# Altium footprint library prop_2009.PcbLib: 22 footprints (part 1 of 2)
Each footprint in its own frame and in the unit in brackets; x right, y up, seen from the top. Pads: shape width x height; smd on the part's side, far side on the other; paste and mask are expansions set on the pad; w line width, h text height; cw(c..) or ccw(c..) is an arc to the next point about the centre after c.
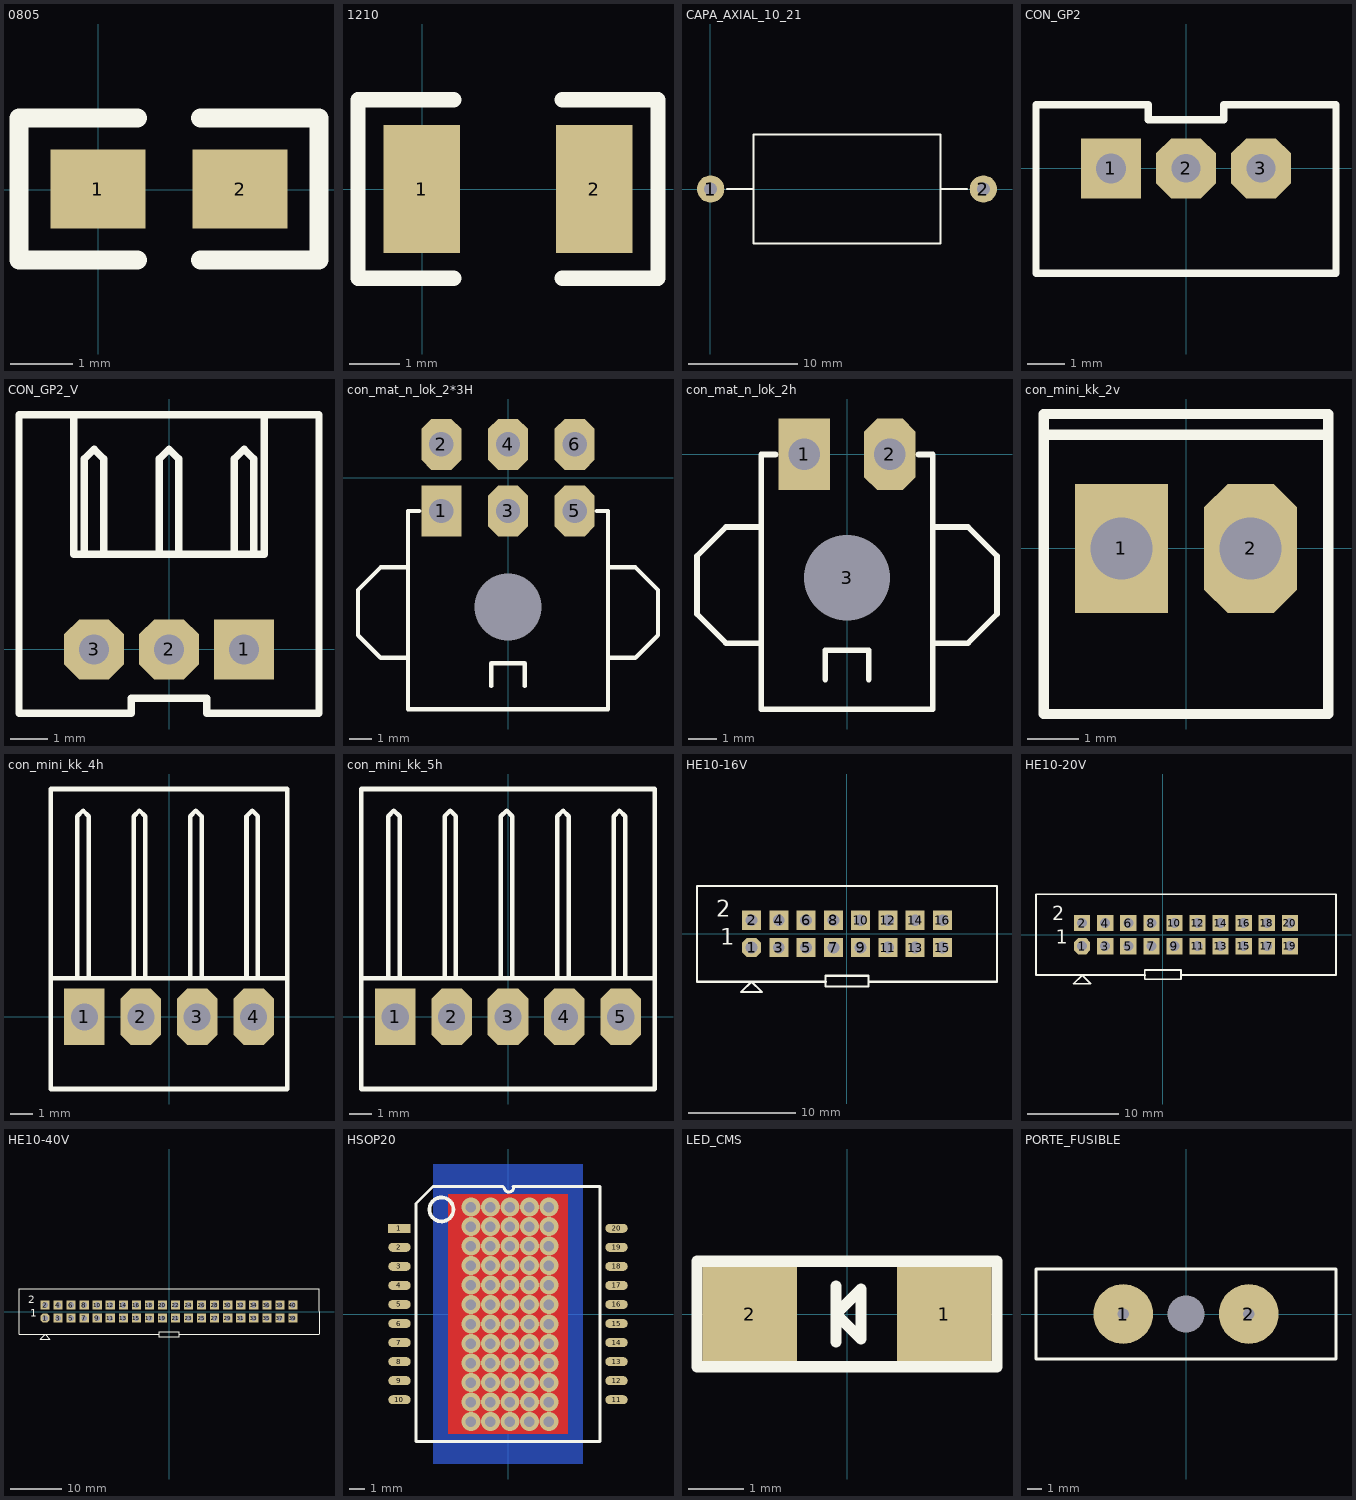
[diagram p0: the footprints below, top view; thin cyan lines are the x and y axes]

## 0805 [mil]
pads (2):
  rect 60x50 smd: 1(-0.32,0.36) 2(89.68,0.36)
Top Overlay:
  lines w12: 24.68,-44.64 -50.32,-44.64 -50.32,45.36 24.68,45.36 ; 64.68,-44.64 139.68,-44.64 139.68,45.36 64.68,45.36

## 1210 [mil]
pads (2):
  rect 60x100 smd: 1(-0.2,0.1) 2(134.8,0.1)
Top Overlay:
  lines w12: 24.8,-69.9 -50.2,-69.9 -50.2,70.1 24.8,70.1 ; 109.8,-69.9 184.8,-69.9 184.8,70.1 109.8,70.1

## CAPA_AXIAL_10_21 [mm]
pads (2):
  round 2.5 hole 1.2: 1(0.015,0.012) 2(25.015,0.012)
Top Overlay:
  lines w0.2: 1.515,0.012 3.94,0.012 ; 21.09,0.012 23.515,0.012 ; 3.94,0.012 3.94,5.012 21.09,5.012 21.09,-4.988 3.94,-4.988 3.94,0.012

## CON_GP2 [mm]
pads (3):
  rect 1.6x1.6 hole 0.8: 1(-2,0)
  oct 1.6x1.6 hole 0.762: 2(0,0) 3(2,0)
Top Overlay:
  lines w0.2: -4,-2.8 -4,1.7 -1,1.7 -1,1.3 1,1.3 1,1.7 4,1.7 4,-2.8 -4,-2.8

## CON_GP2_V [mm]
pads (3):
  rect 1.6x1.6 hole 0.8: 1(2,0)
  oct 1.6x1.6 hole 0.8: 2(0,0) 3(-2,0)
Top Overlay:
  lines w0.2: -2.54,6.25 -2.54,2.54 2.54,2.54 2.54,6.25 ; -2.254,2.54 -2.254,5.08 -2,5.334 -1.746,5.08 -1.746,2.54 ; -0.254,2.54 -0.254,5.08 0,5.334 0.254,5.08 0.254,2.54 ; 1.746,2.54 1.746,5.08 2,5.334 2.254,5.08 2.254,2.54 ; -4,-1.7 -1,-1.7 -1,-1.3 1,-1.3 1,-1.7 4,-1.7 4,6.25 -4,6.25 -4,-1.7

## con_mat_n_lok_2*3H [mm]
pads (7):
  rect 1.8x2.3 hole 1.1: 1(-3,-1.5)
  oct 1.8x2.3 hole 1.1: 2(-3,1.5) 3(0,-1.5) 4(0,1.5) 5(3,-1.5) 6(3,1.5)
  round 1.524 hole 3: ""(0,-5.82)
Top Overlay:
  lines w0.2: -4.5,-8.104 -5.734,-8.104 -6.75,-7.088 -6.75,-5.056 -5.734,-4.04 -4.5,-4.04 ; -4,-1.5 -4.5,-1.5 -4.5,-10.42 4.5,-10.42 4.5,-1.5 4,-1.5 ; -0.762,-9.374 -0.762,-8.358 0.762,-8.358 0.762,-9.374 ; 4.5,-8.104 5.734,-8.104 6.75,-7.088 6.75,-5.056 5.734,-4.04 4.5,-4.04

## con_mat_n_lok_2h [mm]
pads (3):
  rect 1.8x2.5 hole 1.1: 1(-1.5,0)
  oct 1.8x2.5 hole 1.1: 2(1.5,0)
  round 1.524 hole 3: 3(0,-4.32)
Top Overlay:
  lines w0.2: -3,-6.604 -4.234,-6.604 -5.25,-5.588 -5.25,-3.556 -4.234,-2.54 -3,-2.54 ; -2.5,0 -3,0 -3,-8.92 3,-8.92 3,0 2.5,0 ; -0.762,-7.874 -0.762,-6.858 0.762,-6.858 0.762,-7.874 ; 3,-6.604 4.234,-6.604 5.25,-5.588 5.25,-3.556 4.234,-2.54 3,-2.54

## con_mini_kk_2v [mm]
pads (2):
  rect 1.8x2.5 hole 1.2: 1(-1.25,0)
  oct 1.8x2.5 hole 1.2: 2(1.25,0)
Top Overlay:
  lines w0.2: -2.75,2.2 2.75,2.2 ; -2.75,-3.2 2.75,-3.2 2.75,2.6 -2.75,2.6 -2.75,-3.2

## con_mini_kk_4h [mm]
pads (4):
  rect 1.8x2.5 hole 1.2: 1(-3.75,0)
  oct 1.8x2.5 hole 1.2: 2(-1.25,0) 3(1.25,0) 4(3.75,0)
Top Overlay:
  lines w0.2: -5.25,1.7 5.25,1.7 ; -4.064,1.7 -4.064,8.89 -3.81,9.144 -3.556,8.89 -3.556,1.7 ; -1.564,1.7 -1.564,8.89 -1.31,9.144 -1.056,8.89 -1.056,1.7 ; 0.936,1.7 0.936,8.89 1.19,9.144 1.444,8.89 1.444,1.7 ; 3.436,1.7 3.436,8.89 3.69,9.144 3.944,8.89 3.944,1.7 ; -5.25,-3.2 -5.25,10.1 5.25,10.1 5.25,-3.2 -5.25,-3.2

## con_mini_kk_5h [mm]
pads (5):
  rect 1.8x2.5 hole 1.2: 1(-5,0)
  oct 1.8x2.5 hole 1.2: 2(-2.5,0) 3(0,0) 4(2.5,0) 5(5,0)
Top Overlay:
  lines w0.2: -6.5,1.7 6.5,1.7 ; -5.314,1.7 -5.314,8.89 -5.06,9.144 -4.806,8.89 -4.806,1.7 ; -2.814,1.7 -2.814,8.89 -2.56,9.144 -2.306,8.89 -2.306,1.7 ; -0.314,1.7 -0.314,8.89 -0.06,9.144 0.194,8.89 0.194,1.7 ; 2.186,1.7 2.186,8.89 2.44,9.144 2.694,8.89 2.694,1.7 ; 4.686,1.7 4.686,8.89 4.94,9.144 5.194,8.89 5.194,1.7 ; -6.5,-3.2 -6.5,10.1 6.5,10.1 6.5,-3.2 -6.5,-3.2

## HE10-16V [mil]
pads (16):
  oct 70x70 hole 43.31: 1(-350,-50)
  rect 70x70 hole 43.31: 2(-350,50) 3(-250,-50) 4(-250,50) 5(-150,-50) 6(-150,50) 7(-50,-50) 8(-50,50) 9(50,-50) 10(50,50) 11(150,-50) 12(150,50) 13(250,-50) 14(250,50) 15(350,-50) 16(350,50)
Top Overlay:
  lines w8: -312.55,-212.64 -350,-175.2 -387.44,-212.64 -312.44,-212.64 ; -78.94,-175.2 -550,-175.2 -550,175.2 550,175.2 550,-175.2 83.54,-175.2 ; -78.74,-192.91 -78.74,-153.54 78.74,-153.54 78.74,-192.91 -78.74,-192.91
  lines w10: -78.94,-175.2 -78.74,-175.39
  text "1" at -464,-40 h60
  text "2" at -480,63 h60

## HE10-20V [mil]
pads (20):
  oct 70x70 hole 43.31: 1(-350,-50)
  rect 70x70 hole 43.31: 2(-350,50) 3(-250,-50) 4(-250,50) 5(-150,-50) 6(-150,50) 7(-50,-50) 8(-50,50) 9(50,-50) 10(50,50) 11(150,-50) 12(150,50) 13(250,-50) 14(250,50) 15(350,-50) 16(350,50) 17(450,-50) 18(450,50) 19(550,-50) 20(550,50)
Top Overlay:
  lines w8: -312.55,-212.64 -350,-175.2 -387.44,-212.64 -312.44,-212.64 ; -78.94,-175.2 -550,-175.2 -550,175.2 750,175.2 750,-175.2 83.54,-175.2 ; -78.74,-192.91 78.74,-192.91 78.74,-153.54 -78.74,-153.54 -78.74,-192.91
  lines w10: -78.94,-175.2 -78.74,-175.39
  text "2" at -480,63 h60
  text "1" at -464,-40 h60

## HE10-40V [mil]
pads (40):
  oct 70x70 hole 43.31: 1(-950,-50)
  rect 70x70 hole 43.31: 2(-950,50) 3(-850,-50) 4(-850,50) 5(-750,-50) 6(-750,50) 7(-650,-50) 8(-650,50) 9(-550,-50) 10(-550,50) 11(-450,-50) 12(-450,50) 13(-350,-50) 14(-350,50) 15(-250,-50) 16(-250,50) 17(-150,-50) 18(-150,50) 19(-50,-50) 20(-50,50) 21(50,-50) 22(50,50) 23(150,-50) 24(150,50) 25(250,-50) 26(250,50) 27(350,-50) 28(350,50) 29(450,-50) 30(450,50) 31(550,-50) 32(550,50) 33(650,-50) 34(650,50) 35(750,-50) 36(750,50) 37(850,-50) 38(850,50) 39(950,-50) 40(950,50)
Top Overlay:
  lines w8: -912.55,-212.64 -950,-175.2 -987.45,-212.64 -912.44,-212.64 ; -78.74,-175.2 -1150,-175.2 -1150,175.2 1150,175.2 1150,-175.2 78.74,-175.2 ; -78.74,-192.91 -78.74,-153.54 78.74,-153.54 78.74,-192.91 -78.74,-192.91
  lines w10: -78.94,-175.2 -78.74,-175.39
  text "1" at -1064,-40 h60
  text "2" at -1080,63 h60

## HSOP20 [mm]
pads (20):
  rect 1.5x0.6 smd: 1(-7.235,5.715)
  oval 1.5x0.6 smd: 2(-7.235,4.445) 3(-7.235,3.175) 4(-7.235,1.905) 5(-7.235,0.635) 6(-7.235,-0.635) 7(-7.235,-1.905) 8(-7.235,-3.175) 9(-7.235,-4.445) 10(-7.235,-5.715) 11(7.235,-5.715) 12(7.235,-4.445) 13(7.235,-3.175) 14(7.235,-1.905) 15(7.235,-0.635) 16(7.235,0.635) 17(7.235,1.905) 18(7.235,3.175) 19(7.235,4.445) 20(7.235,5.715)
via -2.472,7.132 diameter 1.27 hole 0.7
via -1.172,7.132 diameter 1.27 hole 0.7
via 0.128,7.132 diameter 1.27 hole 0.7
via 1.428,7.132 diameter 1.27 hole 0.7
via 2.728,7.132 diameter 1.27 hole 0.7
via -2.472,5.832 diameter 1.27 hole 0.7
via -1.172,5.832 diameter 1.27 hole 0.7
via 0.128,5.832 diameter 1.27 hole 0.7
via 1.428,5.832 diameter 1.27 hole 0.7
via 2.728,5.832 diameter 1.27 hole 0.7
via -2.472,4.532 diameter 1.27 hole 0.7
via -1.172,4.532 diameter 1.27 hole 0.7
via 0.128,4.532 diameter 1.27 hole 0.7
via 1.428,4.532 diameter 1.27 hole 0.7
via 2.728,4.532 diameter 1.27 hole 0.7
via -2.472,3.232 diameter 1.27 hole 0.7
via -1.172,3.232 diameter 1.27 hole 0.7
via 0.128,3.232 diameter 1.27 hole 0.7
via 1.428,3.232 diameter 1.27 hole 0.7
via 2.728,3.232 diameter 1.27 hole 0.7
via -2.472,1.932 diameter 1.27 hole 0.7
via -1.172,1.932 diameter 1.27 hole 0.7
via 0.128,1.932 diameter 1.27 hole 0.7
via 1.428,1.932 diameter 1.27 hole 0.7
via 2.728,1.932 diameter 1.27 hole 0.7
via -2.472,0.632 diameter 1.27 hole 0.7
via -1.172,0.632 diameter 1.27 hole 0.7
via 0.128,0.632 diameter 1.27 hole 0.7
via 1.428,0.632 diameter 1.27 hole 0.7
via 2.728,0.632 diameter 1.27 hole 0.7
via -2.472,-0.668 diameter 1.27 hole 0.7
via -1.172,-0.668 diameter 1.27 hole 0.7
via 0.128,-0.668 diameter 1.27 hole 0.7
via 1.428,-0.668 diameter 1.27 hole 0.7
via 2.728,-0.668 diameter 1.27 hole 0.7
via -2.472,-1.968 diameter 1.27 hole 0.7
via -1.172,-1.968 diameter 1.27 hole 0.7
via 0.128,-1.968 diameter 1.27 hole 0.7
via 1.428,-1.968 diameter 1.27 hole 0.7
via 2.728,-1.968 diameter 1.27 hole 0.7
via -2.472,-3.268 diameter 1.27 hole 0.7
via -1.172,-3.268 diameter 1.27 hole 0.7
via 0.128,-3.268 diameter 1.27 hole 0.7
via 1.428,-3.268 diameter 1.27 hole 0.7
via 2.728,-3.268 diameter 1.27 hole 0.7
via -2.472,-4.568 diameter 1.27 hole 0.7
via -1.172,-4.568 diameter 1.27 hole 0.7
via 0.128,-4.568 diameter 1.27 hole 0.7
via 1.428,-4.568 diameter 1.27 hole 0.7
via 2.728,-4.568 diameter 1.27 hole 0.7
via -2.472,-5.868 diameter 1.27 hole 0.7
via -1.172,-5.868 diameter 1.27 hole 0.7
via 0.128,-5.868 diameter 1.27 hole 0.7
via 1.428,-5.868 diameter 1.27 hole 0.7
via 2.728,-5.868 diameter 1.27 hole 0.7
via -2.472,-7.168 diameter 1.27 hole 0.7
via -1.172,-7.168 diameter 1.27 hole 0.7
via 0.128,-7.168 diameter 1.27 hole 0.7
via 1.428,-7.168 diameter 1.27 hole 0.7
via 2.728,-7.168 diameter 1.27 hole 0.7
Top Layer:
  rectangle: -3.999,-8 4.001,8
Bottom Layer:
  rectangle: -5,-10 5,10
Top Overlay:
  circle w0.254: c-4.44,6.97 r0.799
  lines w0.2: -0.318,8.5 -5,8.5 -6.14,7.36 -6.14,-8.5 6.14,-8.5 6.14,8.5 0.318,8.5 ; -0.256,8.448 ccw(c0.062,8.448) 0.379,8.448

## LED_CMS [mm]
pads (2):
  rect 1.7x1.7 smd: 1(1.744,0.003) 2(-1.756,0.003)
Top Overlay:
  lines w0.2: -0.206,-0.497 -0.206,0.503 ; -2.706,-0.947 -2.706,0.953 2.694,0.953 2.694,-0.947 -2.706,-0.947 ; -0.206,0.003 0.244,-0.447 0.244,0.453 -0.206,0.003

## PORTE_FUSIBLE [mm]
pads (3):
  round 0 hole 2.5: 0(-0.004,0.009)
  round 4 hole 0.762: 1(-4.214,0.009) 2(4.206,0.009)
Top Overlay:
  lines w0.2: -10.054,-2.991 -10.054,3.009 10.046,3.009 10.046,-2.991 -10.054,-2.991